# EAGLE library part DCR01 (library bbauv)
The DCR01 family is a series of high-efficiency, input-isolated, output-regulated DC/DC converters. In addition to 1W nominal, galvanically-isolated output power capability, this range of DC/DCs offer very low output noise, thermal protection, and high accuracy. The DCR01 family is implemented in standard molded IC packaging, giving standard JEDEC outlines suitable for high-volume assembly. The DCR01 is manufactured using the same technology as standard IC packages, thereby achieving very high reliability.
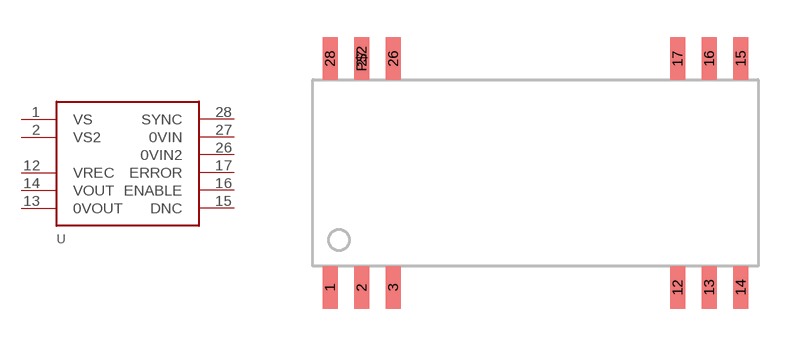
[diagram p12: symbol with the pads of DCR01-SOIC28; footprint DCR01-SOIC28]

Designator prefix -

## DCR01SO  [DCR01-SOIC28]
1  VS  in
2  VS2  in
12  VREC
13  0VOUT  out
14  VOUT  out
15  DNC  nc
16  ENABLE
17  ERROR
26  0VIN2  in
27  0VIN  in
28  SYNC

## Footprint DCR01-SOIC28 (pad centres in mm)
smd 0.6 x 1.7: 1 -8.255,-4.6; 2 -6.985,-4.6; 3 -5.715,-4.6; 12 5.715,-4.6; 13 6.985,-4.6; 14 8.255,-4.6; 15 8.255,4.6; 16 6.985,4.6; 17 5.715,4.6; 26 -5.715,4.6; 27 -6.985,4.6; 28 -8.255,4.6; P$2 -6.985,4.6